# Altium integrated library SmartHalo.IntLib: 126 symbols (part 2 of 2)
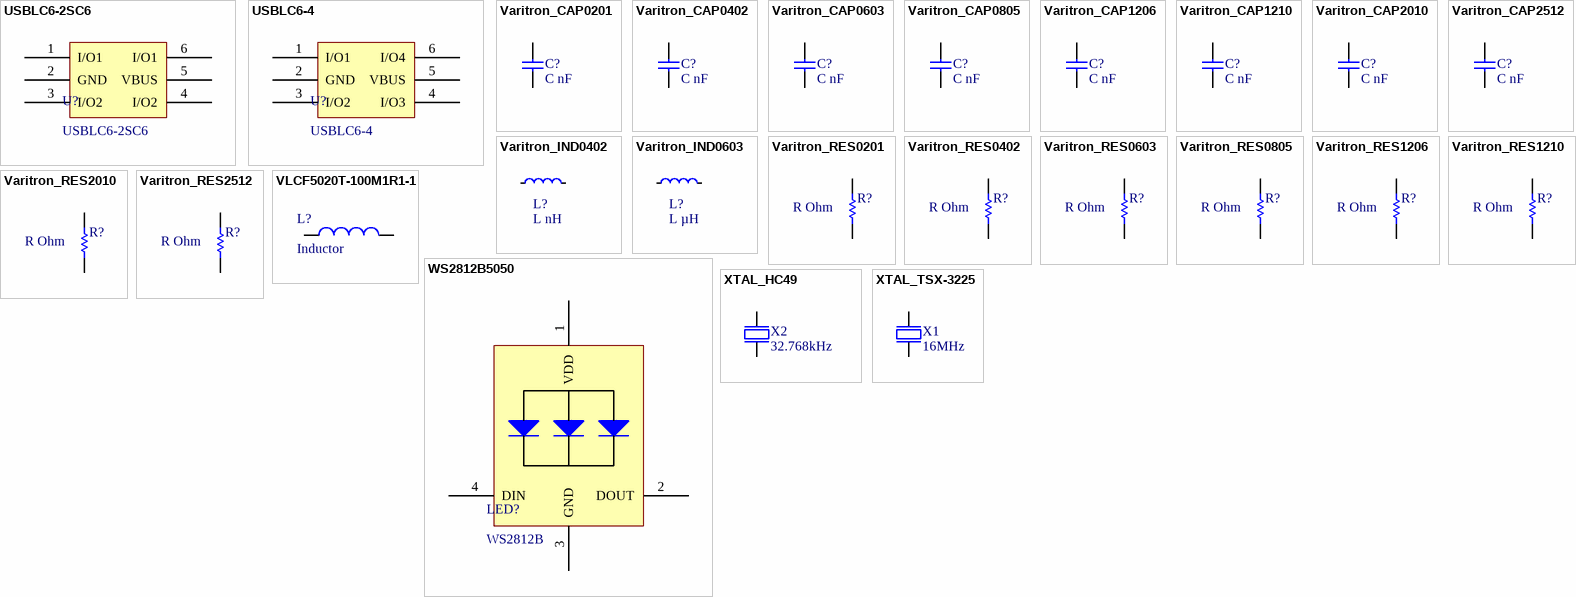
[diagram p4: symbols USBLC6-2SC6 to XTAL_TSX-3225]

## Varitron_RES0402
designator R?, comment R Ohm
R W TOL%  0402 (1005 Metric)  SMD; Tolerance: TOL; Case-Metric: 1005; Case-EIA: 0402; Technology: SMT; Power: W; Supplier: Arrow Electronics; Footprint Name: 0402; Value: R Ohm
footprint Varitron_RES0402 (Resistor 0402(1005), max 1mm height)
pins: 1, 2
1 alternate drawing of the same symbol

## Varitron_RES0603
designator R?, comment R Ohm
R W TOL%  0603 (1608 Metric)  SMD; Tolerance: TOL; Case-Metric: 1608; Case-EIA: 0603; Technology: SMT; Power: W; Supplier: Arrow Electronics; Footprint Name: 0603; Value: R Ohm
footprint Varitron_RES0603 (Resistor 0603(1608), max 1mm height)
pins: 1, 2
1 alternate drawing of the same symbol

## Varitron_RES0805
designator R?, comment R Ohm
R W TOL%  0805 (2012 Metric)  SMD; Tolerance: TOL; Case-Metric: 2012; Case-EIA: 0805; Technology: SMT; Power: W; Part Number: *; Supplier: Arrow Electronics; Footprint Name: 0805; Value: R Ohm
footprint Varitron_RES0805 (Resistor 0805(2012), max 1mm height)
pins: 1, 2
1 alternate drawing of the same symbol

## Varitron_RES1206
designator R?, comment R Ohm
R W TOL%  1206 (3216 Metric)  SMD; Tolerance: TOL; Case-Metric: 3216; Case-EIA: 1206; Technology: SMT; Power: W; Manufacturer Part Number: *; Manufacturer: *; Part Number: *; Supplier: Arrow Electronics; Footprint Name: 1206; Value: R Ohm
footprint Varitron_RES1206 (Resistor 1206(3216), max 1mm height)
pins: 1, 2
1 alternate drawing of the same symbol

## Varitron_RES1210
designator R?, comment R Ohm
R W TOL%  1210 (3225 Metric)  SMD; Tolerance: TOL; Case-Metric: 3225; Case-EIA: 1210; Technology: SMT; Power: W; Supplier: Arrow Electronics; Footprint Name: 1210; Value: R Ohm
footprint Varitron_RES1210 (Resistor 1210(3225), max 1mm height)
pins: 1, 2
1 alternate drawing of the same symbol

## Varitron_RES2010
designator R?, comment R Ohm
R W TOL%  2010 (5025 Metric)  SMD; Tolerance: TOL; Case-Metric: 5025; Case-EIA: 2010; Technology: SMT; Power: W; Supplier: Arrow Electronics; Footprint Name: 2010; Value: R Ohm
footprint Varitron_RES2010 (Resistor 2010(5025), max 1mm height)
pins: 1, 2
1 alternate drawing of the same symbol

## Varitron_RES2512
designator R?, comment R Ohm
R W TOL%  2512 (6432 Metric)  SMD; Tolerance: TOL; Case-Metric: 6432; Case-EIA: 2512; Technology: SMT; Power: W; Supplier: Arrow Electronics; Footprint Name: 2512; Value: R Ohm
footprint Varitron_RES2512 (Resistor 2512(6432), max 1.2mm height)
pins: 1, 2
1 alternate drawing of the same symbol

## VLCF5020T-100M1R1-1
designator L?, comment Inductor
FIXED IND 10UH 1.13A 237 MOHM; Supplier: Arrow Electronics; Footprint Name: IND5020
footprint VLCF5020T-100M1R1-1 (IND SMT, 5 x 5 x 2 mm)
pins: 1, 2

## WS2812B5050
designator LED?, comment WS2812B
IC RGB LED 5V SERIAL
footprint WS2812B5050 (WS RGB LED 5V SERIAL)
pins: 1 VDD, 2 DOUT, 3 GND, 4 DIN

## XTAL_HC49
designator X2, comment 32.768kHz
EPSON TOYOCOM - FC-135 32.768KHZ ±20PPM,9.0PF - CRYSTAL, SM, WATCH; Part Number: XTAL_FC-135 32.768k; Note: XTAL SMD 32.768kHz, 3215; Artikkelnr Noca: 2.20191e+007; Manufacturer: Epson Toyocom; Manufacturer Part Number: FC-135 32.768KHZ ±20PPM,9.0PF; Datasheet: http://www.farnell.com/datasheets/57480.pdf; Footprint: FC-135; LatestRevisionDate: 2010-10-18; Pin Count: 2; Publisher: Nordic Semiconductor; Published: 2010-10-18; Value: 32.768kHz; Supplier: Farnell; Supplier part number: 127-8037; 2nd source Supplier: *; 2nd source part number: *
footprint CRYSTAL_32.768kHz_SMT2 (CRYSTAL 32.768kHz, 4.9 x 1.8 x 0.80 mm, 4.2 mm Pitch)
pins: 1 inp, 2 out

## XTAL_TSX-3225
designator X1, comment 16MHz
XTAL SMD 16MHz, 9pF, Mercury; Part Number: XTAL SMD 16MHz (3225); Note: XTAL SMD 16MHz 3225; Artikkelnr Noca: 22019087; Value: 16MHz; Manufacturer: *; Manufacturer Part Number: *; Datasheet: http://ndap3-net.ebz.epson.co.jp/w/www/PDFS/epdoc_qd.nsf/85a4e2c523a1f89349257068002f9e30/31e98956c8f991cd4925707c003b38b1/$FILE/FA-238_238V_TSX-3225_E08X.pdf; Footprint: BT-XTAL_3225; LatestRevisionDate: 2010-02-24; Pin Count: 4; Publisher: Nordic Semiconductor; Published: 2009-05-30; Supplier: *; Supplier part number: *; 2nd source Supplier: *; 2nd source part number: *
footprint CRYSTAL_16MHz_SMT4 (CRYSTAL 2.5 x 2.0 mm, 4 Pads, 1.5 mm Horizontal Pitch, 1.25 mm Vertical Pitch)
pins: 1 inp, 2 GND hidden to GND, 3 out, 4 GND hidden to GND